# EAGLE library part MC1496 (library _mtvl_ic)
Balanced Modulators /Demodulators
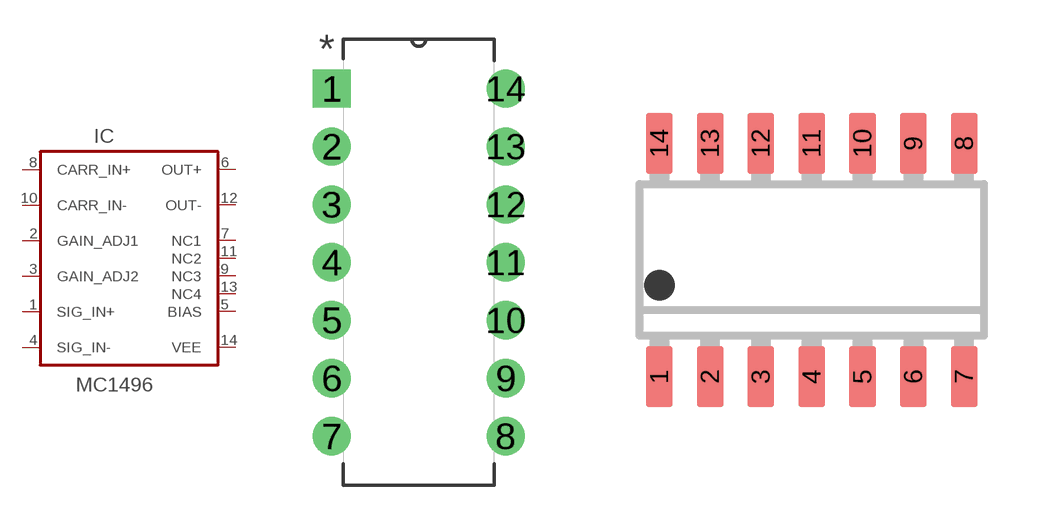
[diagram p14: symbol with the pads of DIP254P762X469-14; footprints DIP254P762X469-14, SO14_]

Designator prefix IC

## MC1496 (MPN: MC1496; SUPPLIER: ON SEMICONDUCTOR)  [DIP254P762X469-14]
1  SIG_IN+  in
2  GAIN_ADJ1
3  GAIN_ADJ2
4  SIG_IN-  in
5  BIAS  pas
6  OUT+  out
7  NC1  nc
8  CARR_IN+  in
9  NC3  nc
10  CARR_IN-  in
11  NC2  nc
12  OUT-  out
13  NC4  nc
14  VEE  pwr

## MC1496BDG  [SO14_]
1  SIG_IN+  in
2  GAIN_ADJ1
3  GAIN_ADJ2
4  SIG_IN-  in
5  BIAS  pas
6  OUT+  out
7  NC1  nc
8  CARR_IN+  in
9  NC2  nc
10  CARR_IN-  in
11  NC3  nc
12  OUT-  out
13  NC4  nc
14  VEE  pwr

## Footprint DIP254P762X469-14 (pad centres in mm)
drill 1.118 square: 1 -7.62,15.24
drill 1.118: 2 -7.62,12.7; 3 -7.62,10.16; 4 -7.62,7.62; 5 -7.62,5.08; 6 -7.62,2.54; 7 -7.62,0; 8 0,0; 9 0,2.54; 10 0,5.08; 11 0,7.62; 12 0,10.16; 13 0,12.7; 14 0,15.24

## Footprint SO14_ (pad centres in mm)
Small Outline Package 14
smd 0.66 x 1.524: 1 -3.81,-2.921; 2 -2.54,-2.921; 3 -1.27,-2.921; 4 0,-2.921; 5 1.27,-2.921; 6 2.54,-2.921; 7 3.81,-2.921; 8 3.81,2.921; 9 2.54,2.921; 10 1.27,2.921; 11 0,2.921; 12 -1.27,2.921; 13 -2.54,2.921; 14 -3.81,2.921